# Altium footprint library GNSS.PcbLib: 1 footprints
Each footprint in its own frame and in the unit in brackets; x right, y up, seen from the top. Pads: shape width x height; smd on the part's side, far side on the other; paste and mask are expansions set on the pad; w line width, h text height; cw(c..) or ccw(c..) is an arc to the next point about the centre after c.
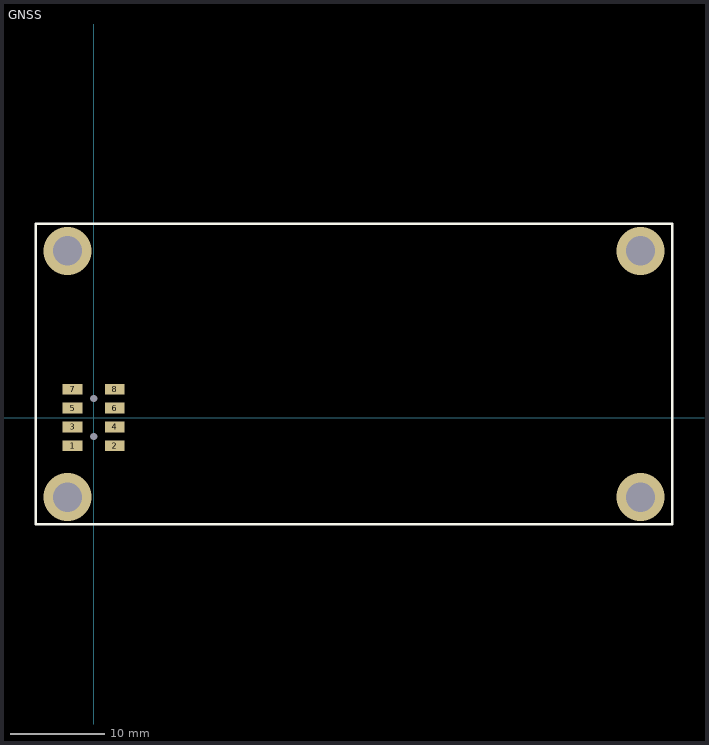
[diagram p0: the footprint, top view; thin cyan lines are the x and y axes]

## GNSS [mm]
pads (10):
  round 0 hole 0.76: 0(0,-2) 0(0,2)
  rect 2.105x1.12 smd: 1(-2.222,-3) 2(2.223,-3) 3(-2.222,-1) 4(2.223,-1) 5(-2.222,1) 6(2.223,1) 7(-2.222,3) 8(2.223,3)
via -2.77,17.595 diameter 5.08 hole 3.099
via 57.73,-8.405 diameter 5.08 hole 3.099
via 57.73,17.595 diameter 5.08 hole 3.099
via -2.77,-8.405 diameter 5.08 hole 3.099
Top Overlay:
  lines w0.254: -6.11,-11.28 -6.11,20.47 61.07,20.47 61.07,-11.28 -6.11,-11.28
3D body "TLE-104-01-G-DV.stp": height 4.32, standoff -0.18, extent -2.781,-3.848 2.781,4.148